# EAGLE library part TPA311XD2-Q1 (library My_TI)
TPA311xD2-Q1 100-W and 50-W Class-D Stereo Automotive Amplifiers Wide Voltage Range: 4.5V to 26V Datasheet <http://www.ti.com/lit/ds/symlink/tpa3116d2-q1.pdf>
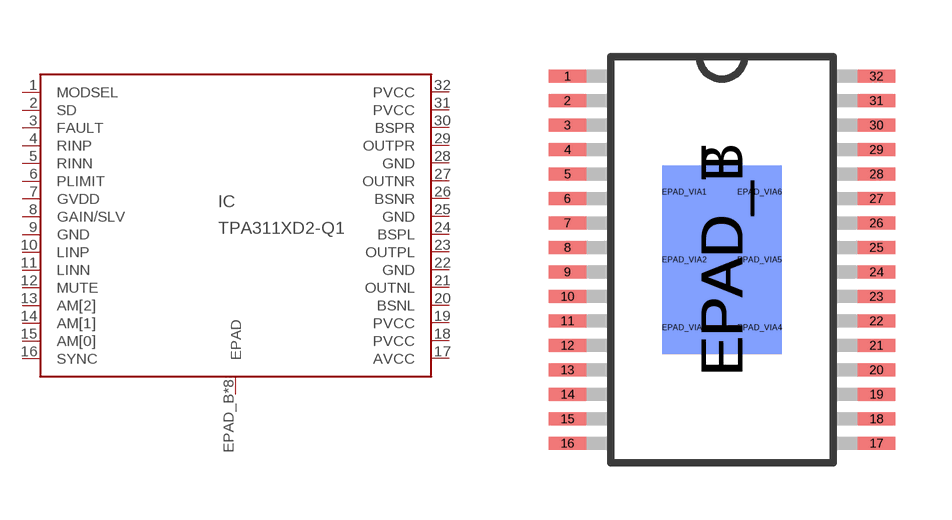
[diagram p25: symbol with the pads of HTSSOP-32; footprint HTSSOP-32]

Designator prefix IC

## TPA311XD2-Q1  [HTSSOP-32]
1  MODSEL  in
2  SD  in
3  FAULT
4  RINP  in
5  RINN  in
6  PLIMIT  in
7  GVDD
8  GAIN/SLV  in
9  GND  pwr
10  LINP  in
11  LINN  in
12  MUTE  in
13  AM[2]  in
14  AM[1]  in
15  AM[0]  in
16  SYNC
17  AVCC  pwr
18  PVCC  pwr
19  PVCC  pwr
20  BSNL
21  OUTNL  out
22  GND  pwr
23  OUTPL  out
24  BSPL
25  GND  pwr
26  BSNR
27  OUTNR  out
28  GND  pwr
29  OUTPR  out
30  BSPR
31  PVCC  pwr
32  PVCC  pwr
EPAD_B  EPAD  pwr
EPAD_T  EPAD  pwr
EPAD_VIA1  EPAD  pwr
EPAD_VIA2  EPAD  pwr
EPAD_VIA3  EPAD  pwr
EPAD_VIA4  EPAD  pwr
EPAD_VIA5  EPAD  pwr
EPAD_VIA6  EPAD  pwr

## Footprint HTSSOP-32 (pad centres in mm)
HTSSOP-32 Auto generated by make-symbol-device-package-bsdl.ulp Rev. 44
smd 1 x 0.35: 1 -4.1,4.875; 2 -4.1,4.225; 3 -4.1,3.575; 4 -4.1,2.925; 5 -4.1,2.275; 6 -4.1,1.625; 7 -4.1,0.975; 8 -4.1,0.325; 9 -4.1,-0.325; 10 -4.1,-0.975; 11 -4.1,-1.625; 12 -4.1,-2.275; 13 -4.1,-2.925; 14 -4.1,-3.575; 15 -4.1,-4.225; 16 -4.1,-4.875; 17 4.1,-4.875; 18 4.1,-4.225; 19 4.1,-3.575; 20 4.1,-2.925; 21 4.1,-2.275; 22 4.1,-1.625; 23 4.1,-0.975; 24 4.1,-0.325; 25 4.1,0.325; 26 4.1,0.975; 27 4.1,1.625; 28 4.1,2.275; 29 4.1,2.925; 30 4.1,3.575; 31 4.1,4.225; 32 4.1,4.875
smd 3.17 x 5 bottom: EPAD_B 0,0
smd 3.17 x 5: EPAD_T 0,0
drill 0.4: EPAD_VIA1 -1,1.8; EPAD_VIA2 -1,0; EPAD_VIA3 -1,-1.8; EPAD_VIA4 1,-1.8; EPAD_VIA5 1,0; EPAD_VIA6 1,1.8